# EAGLE library part ATMEL_ICE_AVR_HD (library customheaders)
2x5 pin header with 1.27mm pitch.
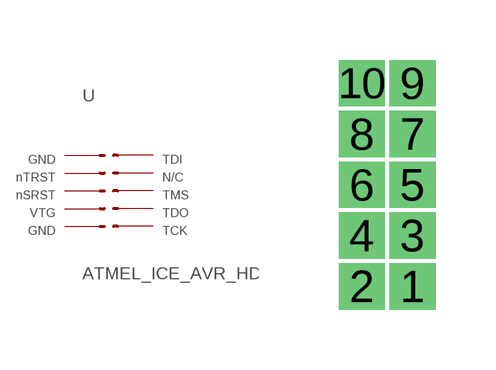
[diagram p0: symbol with the pads of ATMEL_ICE_AVR_HD; footprint ATMEL_ICE_AVR_HD]

Designator prefix -

## ATMEL_ICE_AVR_HD/IN  [ATMEL_ICE_AVR_HD]
1  TCK
2  GND1
3  TDO
4  VTG
5  TMS
6  NSRST
7  N/C
8  NTSRST
9  TDI
10  GND2

## Footprint ATMEL_ICE_AVR_HD (pad centres in mm)
pin header 1.27mm 2x5
drill 0.65 pad 0.9 square: 1 0,-2.54; 2 -1.27,-2.54; 3 0,-1.27; 4 -1.27,-1.27; 5 0,0; 6 -1.27,0; 7 0,1.27; 8 -1.27,1.27; 9 0,2.54; 10 -1.27,2.54